# EAGLE library part FRANZININHO (library LIB Franzininho)
Espressif ESP32 WiFi-compatible SoC microcontroller. Bluetooth Low energy support (BLE, BT4.0, Bluetooth Smart) 28 GPIO pins Dual-core Tensilica LX6 microprocessor Hardware accelerated encryption (AES, SHA2, ECC, RSA-4096) 4MB Flash memory 520kB internal SRAM Datasheet <https://cdn.sparkfun.com/datasheets/IoT/esp32_datasheet_en.pdf> SparkFun Products: SparkFun ESP32 Thing <https://www.sparkfun.com/products/13907>
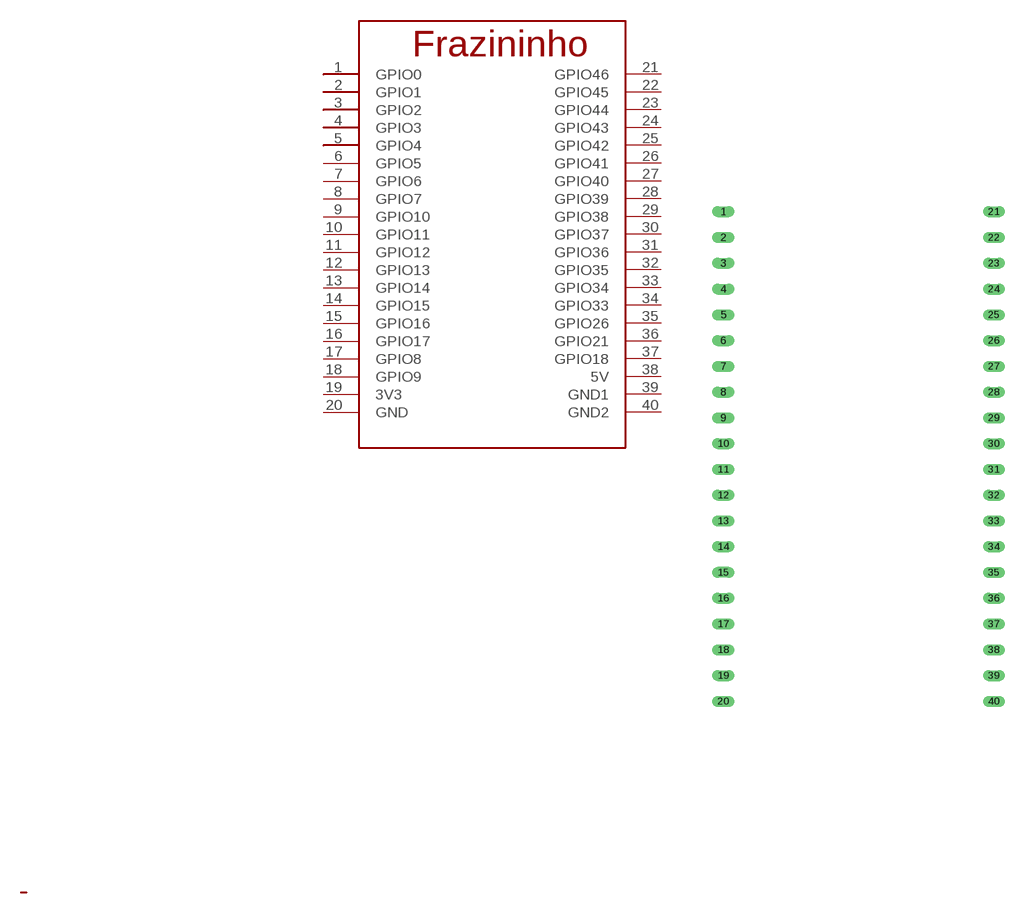
[diagram p0: symbol with the pads of FRANZININHO; footprint FRANZININHO]

Designator prefix U

## FRANZININHO (PROD_ID: IC-13338)  [FRANZININHO]
1  GPIO0
2  GPIO1
3  GPIO2
4  GPIO3
5  GPIO4
6  GPIO5
7  GPIO6
8  GPIO7
9  GPIO10
10  GPIO11
11  GPIO12
12  GPIO13
13  GPIO14
14  GPIO15
15  GPIO16
16  GPIO17
17  GPIO8
18  GPIO9
19  3V3  pwr
20  GND
21  GPIO46
22  GPIO45
23  GPIO44
24  GPIO43
25  GPIO42
26  GPIO41
27  GPIO40
28  GPIO39
29  GPIO38
30  GPIO37
31  GPIO36
32  GPIO35
33  GPIO34
34  GPIO33
35  GPIO26
36  GPIO21
37  GPIO18
38  5V  pwr
39  GND1
40  GND2

## Footprint FRANZININHO (pad centres in mm)
QFN 48 Pin Specifications: Pin count: 48 Pin pitch: 0.4mm Datasheet referenced for footprint <https://cdn.sparkfun.com/datasheets/IoT/esp32_datasheet_en.pdf> Example device(s): ESP32
drill 0.6 long: 1 2.54,52.07; 2 2.54,49.53; 3 2.54,46.99; 4 2.54,44.45; 5 2.54,41.91; 6 2.54,39.37; 7 2.54,36.83; 8 2.54,34.29; 9 2.54,31.75; 10 2.54,29.21; 11 2.54,26.67; 12 2.54,24.13; 13 2.54,21.59; 14 2.54,19.05; 15 2.54,16.51; 16 2.54,13.97; 17 2.54,11.43; 18 2.54,8.89; 19 2.54,6.35; 20 2.54,3.81; 21 29.21,52.07; 22 29.21,49.53; 23 29.21,46.99; 24 29.21,44.45; 25 29.21,41.91; 26 29.21,39.37; 27 29.21,36.83; 28 29.21,34.29; 29 29.21,31.75; 30 29.21,29.21; 31 29.21,26.67; 32 29.21,24.13; 33 29.21,21.59; 34 29.21,19.05; 35 29.21,16.51; 36 29.21,13.97; 37 29.21,11.43; 38 29.21,8.89; 39 29.21,6.35; 40 29.21,3.81